# Altium integrated library module_july_2020.IntLib: 1 symbol
Pins are listed as number, name and electrical type; pins without a type are passive.

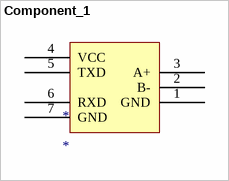
[diagram p0: symbol Component_1]

## Component_1
designator *
footprint PCBComponent_1
pins: 1 GND, 2 B-, 3 A+, 4 VCC, 5 TXD, 6 RXD, 7 GND